# Altium schematic symbol library Regulator_Linear.SchLib: 1620 symbols (part 8 of 16)
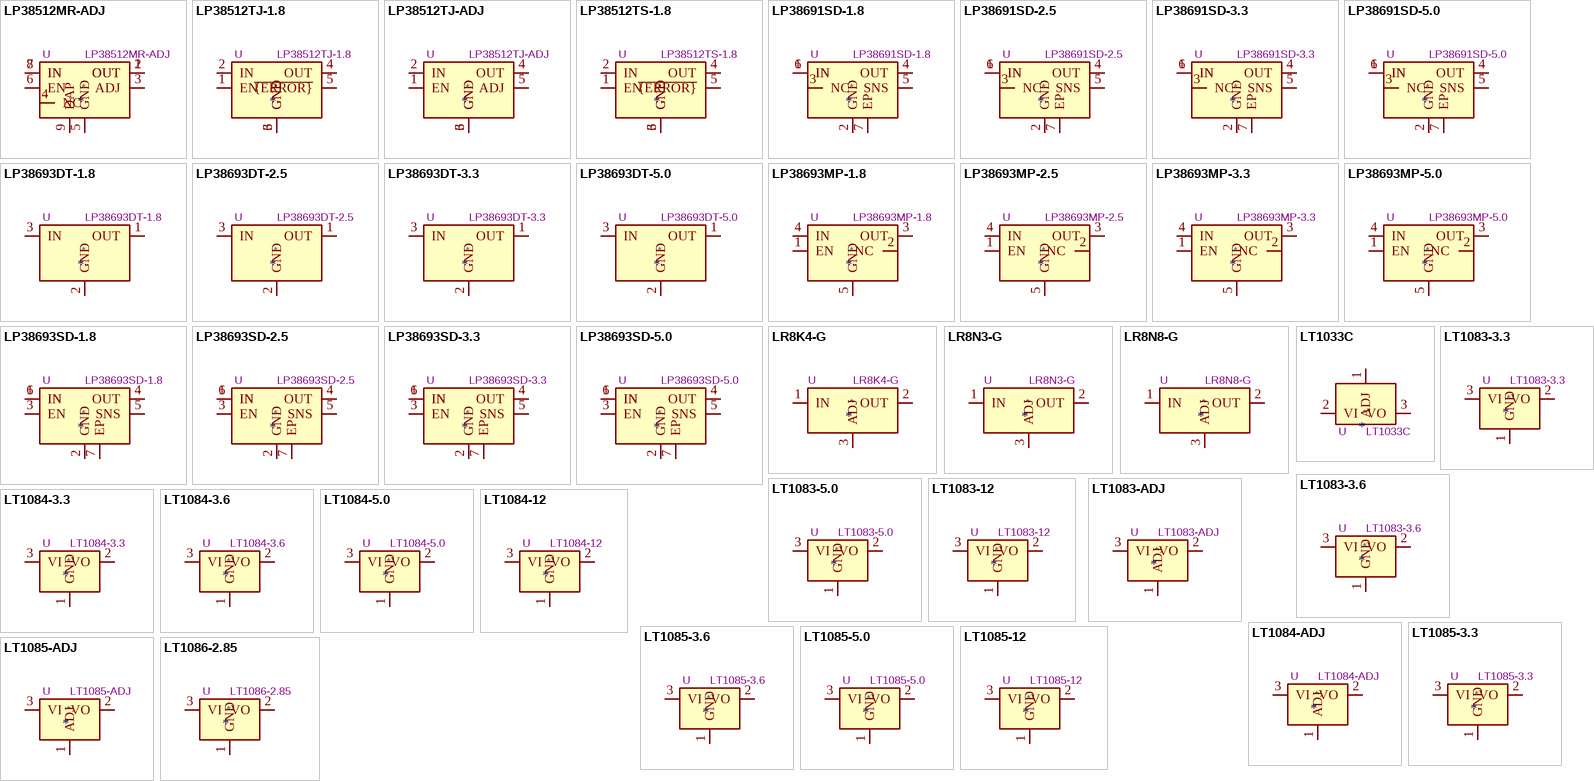
[diagram p47: symbols LP38512MR-ADJ to LT1086-2.85]

## LP38693MP-5.0
designator *  value LP38693MP-5.0  Reference: U
500-mA Low-Dropout CMOS Linear Regulators Stable With Ceramic Output Capacitors, 5.0V output voltage, Enable Pin, SOT-223; ki_keywords: LDO Linear Regulator; ki_fp_filters: SOT*223*; Footprint: Package_TO_SOT_SMD:SOT-223-5; Datasheet: https://www.ti.com/lit/ds/symlink/lp38693.pdf; Description_: 500-mA Low-Dropout CMOS Linear Regulators Stable With Ceramic Output Capacitors, 5.0V output voltage, Enable Pin, SOT-223
pins: 1 EN, 2 NC, 3 OUT, 4 IN, 5 GND

## LP38693SD-1.8
designator *  value LP38693SD-1.8  Reference: U
500-mA Low-Dropout CMOS Linear Regulators Stable With Ceramic Output Capacitors, 1.8V output voltage, Enable Pin, WSON-6; ki_keywords: LDO Linear Regulator; ki_fp_filters: WSON*1EP*3x3mm*P0.95mm*; Footprint: Package_SON:WSON-6-1EP_3x3mm_P0.95mm; Datasheet: https://www.ti.com/lit/ds/symlink/lp38693.pdf; Description_: 500-mA Low-Dropout CMOS Linear Regulators Stable With Ceramic Output Capacitors, 1.8V output voltage, Enable Pin, WSON-6
pins: 1 IN, 2 GND, 3 EN, 4 OUT, 5 SNS, 6 IN, 7 EP

## LP38693SD-2.5
designator *  value LP38693SD-2.5  Reference: U
500-mA Low-Dropout CMOS Linear Regulators Stable With Ceramic Output Capacitors, 2.5V output voltage, Enable Pin, WSON-6; ki_keywords: LDO Linear Regulator; ki_fp_filters: WSON*1EP*3x3mm*P0.95mm*; Footprint: Package_SON:WSON-6-1EP_3x3mm_P0.95mm; Datasheet: https://www.ti.com/lit/ds/symlink/lp38693.pdf; Description_: 500-mA Low-Dropout CMOS Linear Regulators Stable With Ceramic Output Capacitors, 2.5V output voltage, Enable Pin, WSON-6
pins: 1 IN, 2 GND, 3 EN, 4 OUT, 5 SNS, 6 IN, 7 EP

## LP38693SD-3.3
designator *  value LP38693SD-3.3  Reference: U
500-mA Low-Dropout CMOS Linear Regulators Stable With Ceramic Output Capacitors, 3.3V output voltage, Enable Pin, WSON-6; ki_keywords: LDO Linear Regulator; ki_fp_filters: WSON*1EP*3x3mm*P0.95mm*; Footprint: Package_SON:WSON-6-1EP_3x3mm_P0.95mm; Datasheet: https://www.ti.com/lit/ds/symlink/lp38693.pdf; Description_: 500-mA Low-Dropout CMOS Linear Regulators Stable With Ceramic Output Capacitors, 3.3V output voltage, Enable Pin, WSON-6
pins: 1 IN, 2 GND, 3 EN, 4 OUT, 5 SNS, 6 IN, 7 EP

## LP38693SD-5.0
designator *  value LP38693SD-5.0  Reference: U
500-mA Low-Dropout CMOS Linear Regulators Stable With Ceramic Output Capacitors, 5.0V output voltage, Enable Pin, WSON-6; ki_keywords: LDO Linear Regulator; ki_fp_filters: WSON*1EP*3x3mm*P0.95mm*; Footprint: Package_SON:WSON-6-1EP_3x3mm_P0.95mm; Datasheet: https://www.ti.com/lit/ds/symlink/lp38693.pdf; Description_: 500-mA Low-Dropout CMOS Linear Regulators Stable With Ceramic Output Capacitors, 5.0V output voltage, Enable Pin, WSON-6
pins: 1 IN, 2 GND, 3 EN, 4 OUT, 5 SNS, 6 IN, 7 EP

## LR8K4-G
designator *  value LR8K4-G  Reference: U
30mA 450V High-Voltage Linear Regulator (Adjustable), TO-252 (D-PAK); ki_keywords: High-Voltage Regulator Adjustable Positive; ki_fp_filters: TO*252*; Footprint: Package_TO_SOT_SMD:TO-252-2; Datasheet: http://ww1.microchip.com/downloads/en/DeviceDoc/20005399B.pdf; Description_: 30mA 450V High-Voltage Linear Regulator (Adjustable), TO-252 (D-PAK)
pins: 1 IN, 2 OUT, 3 ADJ

## LR8N3-G
designator *  value LR8N3-G  Reference: U
30mA 450V High-Voltage Linear Regulator (Adjustable), TO-92; ki_keywords: High-Voltage Regulator Adjustable Positive; ki_fp_filters: TO?92*; Footprint: Package_TO_SOT_THT:TO-92_Inline; Datasheet: http://www.supertex.com/pdf/datasheets/LR8.pdf; Description_: 30mA 450V High-Voltage Linear Regulator (Adjustable), TO-92
pins: 1 IN, 2 OUT, 3 ADJ

## LR8N8-G
designator *  value LR8N8-G  Reference: U
30mA 450V High-Voltage Linear Regulator (Adjustable), SOT-89; ki_keywords: High-Voltage Regulator Adjustable Positive; ki_fp_filters: SOT*; Footprint: Package_TO_SOT_SMD:SOT-89-3; Datasheet: http://www.supertex.com/pdf/datasheets/LR8.pdf; Description_: 30mA 450V High-Voltage Linear Regulator (Adjustable), SOT-89
pins: 1 IN, 2 OUT, 3 ADJ

## LT1033C
designator *  value LT1033C  Reference: U
Negative 3A 35V Adjustable Linear Regulator, TO-220; ki_keywords: Adjustable Voltage Regulator 3A Negative; ki_fp_filters: TO?220*; Footprint: Package_TO_SOT_THT:TO-220-3_Vertical; Datasheet: https://www.analog.com/media/en/technical-documentation/data-sheets/1033fd.pdf; Description_: Negative 3A 35V Adjustable Linear Regulator, TO-220
pins: 1 ADJ, 2 VI, 3 VO

## LT1083-3.3
designator *  value LT1083-3.3  Reference: U
7.5A 20V LDO Linear Regulator, Fixed Output 3.3V, TO-220/TO-263; ki_keywords: Voltage Regulator Fixed 7.5A Positive LDO; ki_fp_filters: TO?220* TO?263*; Datasheet: https://www.analog.com/media/en/technical-documentation/data-sheets/1083ffe.pdf; Description_: 7.5A 20V LDO Linear Regulator, Fixed Output 3.3V, TO-220/TO-263
pins: 1 GND, 2 VO, 3 VI

## LT1083-3.6
designator *  value LT1083-3.6  Reference: U
7.5A 20V LDO Linear Regulator, Fixed Output 3.6V, TO-220/TO-263; ki_keywords: Voltage Regulator Fixed 7.5A Positive LDO; ki_fp_filters: TO?220* TO?263*; Datasheet: https://www.analog.com/media/en/technical-documentation/data-sheets/1083ffe.pdf; Description_: 7.5A 20V LDO Linear Regulator, Fixed Output 3.6V, TO-220/TO-263
pins: 1 GND, 2 VO, 3 VI

## LT1083-5.0
designator *  value LT1083-5.0  Reference: U
7.5A 20V LDO Linear Regulator, Fixed Output 5.V, TO-220/TO-263; ki_keywords: Voltage Regulator Fixed 7.5A Positive LDO; ki_fp_filters: TO?220* TO?263*; Datasheet: https://www.analog.com/media/en/technical-documentation/data-sheets/1083ffe.pdf; Description_: 7.5A 20V LDO Linear Regulator, Fixed Output 5.V, TO-220/TO-263
pins: 1 GND, 2 VO, 3 VI

## LT1083-12
designator *  value LT1083-12  Reference: U
7.5A 25V LDO Linear Regulator, Fixed Output 12V, TO-220/TO-263; ki_keywords: Voltage Regulator Fixed 7.5A Positive LDO; ki_fp_filters: TO?220* TO?263*; Datasheet: https://www.analog.com/media/en/technical-documentation/data-sheets/1083ffe.pdf; Description_: 7.5A 25V LDO Linear Regulator, Fixed Output 12V, TO-220/TO-263
pins: 1 GND, 2 VO, 3 VI

## LT1083-ADJ
designator *  value LT1083-ADJ  Reference: U
7.5A 25V LDO Linear Regulator, Adjustable Output, TO-220/TO-263; ki_keywords: Voltage Regulator Adjustable 7.5A Positive LDO; ki_fp_filters: TO?220* TO?263*; Datasheet: https://www.analog.com/media/en/technical-documentation/data-sheets/108345fh.pdf; Description_: 7.5A 25V LDO Linear Regulator, Adjustable Output, TO-220/TO-263
pins: 1 ADJ, 2 VO, 3 VI

## LT1084-3.3
designator *  value LT1084-3.3  Reference: U
5.0A 20V LDO Linear Regulator, Fixed Output 3.3V, TO-220/TO-263; ki_keywords: Voltage Regulator Fixed 5.0A Positive LDO; ki_fp_filters: TO?220* TO?263*; Datasheet: https://www.analog.com/media/en/technical-documentation/data-sheets/1083ffe.pdf; Description_: 5.0A 20V LDO Linear Regulator, Fixed Output 3.3V, TO-220/TO-263
pins: 1 GND, 2 VO, 3 VI

## LT1084-3.6
designator *  value LT1084-3.6  Reference: U
5.0A 20V LDO Linear Regulator, Fixed Output 3.6V, TO-220/TO-263; ki_keywords: Voltage Regulator Fixed 5.0A Positive LDO; ki_fp_filters: TO?220* TO?263*; Datasheet: https://www.analog.com/media/en/technical-documentation/data-sheets/1083ffe.pdf; Description_: 5.0A 20V LDO Linear Regulator, Fixed Output 3.6V, TO-220/TO-263
pins: 1 GND, 2 VO, 3 VI

## LT1084-5.0
designator *  value LT1084-5.0  Reference: U
5.0A 20V LDO Linear Regulator, Fixed Output 5.V, TO-220/TO-263; ki_keywords: Voltage Regulator Fixed 5.0A Positive LDO; ki_fp_filters: TO?220* TO?263*; Datasheet: https://www.analog.com/media/en/technical-documentation/data-sheets/1083ffe.pdf; Description_: 5.0A 20V LDO Linear Regulator, Fixed Output 5.V, TO-220/TO-263
pins: 1 GND, 2 VO, 3 VI

## LT1084-12
designator *  value LT1084-12  Reference: U
5.0A 25V LDO Linear Regulator, Fixed Output 12V, TO-220/TO-263; ki_keywords: Voltage Regulator Fixed 5.0A Positive LDO; ki_fp_filters: TO?220* TO?263*; Datasheet: https://www.analog.com/media/en/technical-documentation/data-sheets/1083ffe.pdf; Description_: 5.0A 25V LDO Linear Regulator, Fixed Output 12V, TO-220/TO-263
pins: 1 GND, 2 VO, 3 VI

## LT1084-ADJ
designator *  value LT1084-ADJ  Reference: U
5.0A 25V LDO Linear Regulator, Adjustable Output, TO-220/TO-263; ki_keywords: Voltage Regulator Adjustable 5.0A Positive LDO; ki_fp_filters: TO?220* TO?263*; Datasheet: https://www.analog.com/media/en/technical-documentation/data-sheets/108345fh.pdf; Description_: 5.0A 25V LDO Linear Regulator, Adjustable Output, TO-220/TO-263
pins: 1 ADJ, 2 VO, 3 VI

## LT1085-3.3
designator *  value LT1085-3.3  Reference: U
3.0A 20V LDO Linear Regulator, Fixed Output 3.3V, TO-220/TO-263; ki_keywords: Voltage Regulator Fixed 3.0A Positive LDO; ki_fp_filters: TO?220* TO?263*; Datasheet: https://www.analog.com/media/en/technical-documentation/data-sheets/1083ffe.pdf; Description_: 3.0A 20V LDO Linear Regulator, Fixed Output 3.3V, TO-220/TO-263
pins: 1 GND, 2 VO, 3 VI

## LT1085-3.6
designator *  value LT1085-3.6  Reference: U
3.0A 20V LDO Linear Regulator, Fixed Output 3.6V, TO-220/TO-263; ki_keywords: Voltage Regulator Fixed 3.0A Positive LDO; ki_fp_filters: TO?220* TO?263*; Datasheet: https://www.analog.com/media/en/technical-documentation/data-sheets/1083ffe.pdf; Description_: 3.0A 20V LDO Linear Regulator, Fixed Output 3.6V, TO-220/TO-263
pins: 1 GND, 2 VO, 3 VI

## LT1085-5.0
designator *  value LT1085-5.0  Reference: U
3.0A 20V LDO Linear Regulator, Fixed Output 5.V, TO-220/TO-263; ki_keywords: Voltage Regulator Fixed 3.0A Positive LDO; ki_fp_filters: TO?220* TO?263*; Datasheet: https://www.analog.com/media/en/technical-documentation/data-sheets/1083ffe.pdf; Description_: 3.0A 20V LDO Linear Regulator, Fixed Output 5.V, TO-220/TO-263
pins: 1 GND, 2 VO, 3 VI

## LT1085-12
designator *  value LT1085-12  Reference: U
3.0A 25V LDO Linear Regulator, Fixed Output 12V, TO-220/TO-263; ki_keywords: Voltage Regulator Fixed 3.0A Positive LDO; ki_fp_filters: TO?220* TO?263*; Datasheet: https://www.analog.com/media/en/technical-documentation/data-sheets/1083ffe.pdf; Description_: 3.0A 25V LDO Linear Regulator, Fixed Output 12V, TO-220/TO-263
pins: 1 GND, 2 VO, 3 VI

## LT1085-ADJ
designator *  value LT1085-ADJ  Reference: U
3.0A 25V LDO Linear Regulator, Adjustable Output, TO-220/TO-263; ki_keywords: Voltage Regulator Adjustable 3.0A Positive LDO; ki_fp_filters: TO?220* TO?263*; Datasheet: https://www.analog.com/media/en/technical-documentation/data-sheets/108345fh.pdf; Description_: 3.0A 25V LDO Linear Regulator, Adjustable Output, TO-220/TO-263
pins: 1 ADJ, 2 VO, 3 VI

## LT1086-2.85
designator *  value LT1086-2.85  Reference: U
1.5A 18V LDO Linear Regulator, Fixed Output 2.85V, TO-220/TO-263; ki_keywords: Voltage Regulator Fixed 1.5A Positive LDO; ki_fp_filters: TO?220* TO?263*; Datasheet: https://www.analog.com/media/en/technical-documentation/data-sheets/1086ffs.pdf; Description_: 1.5A 18V LDO Linear Regulator, Fixed Output 2.85V, TO-220/TO-263
pins: 1 GND, 2 VO, 3 VI

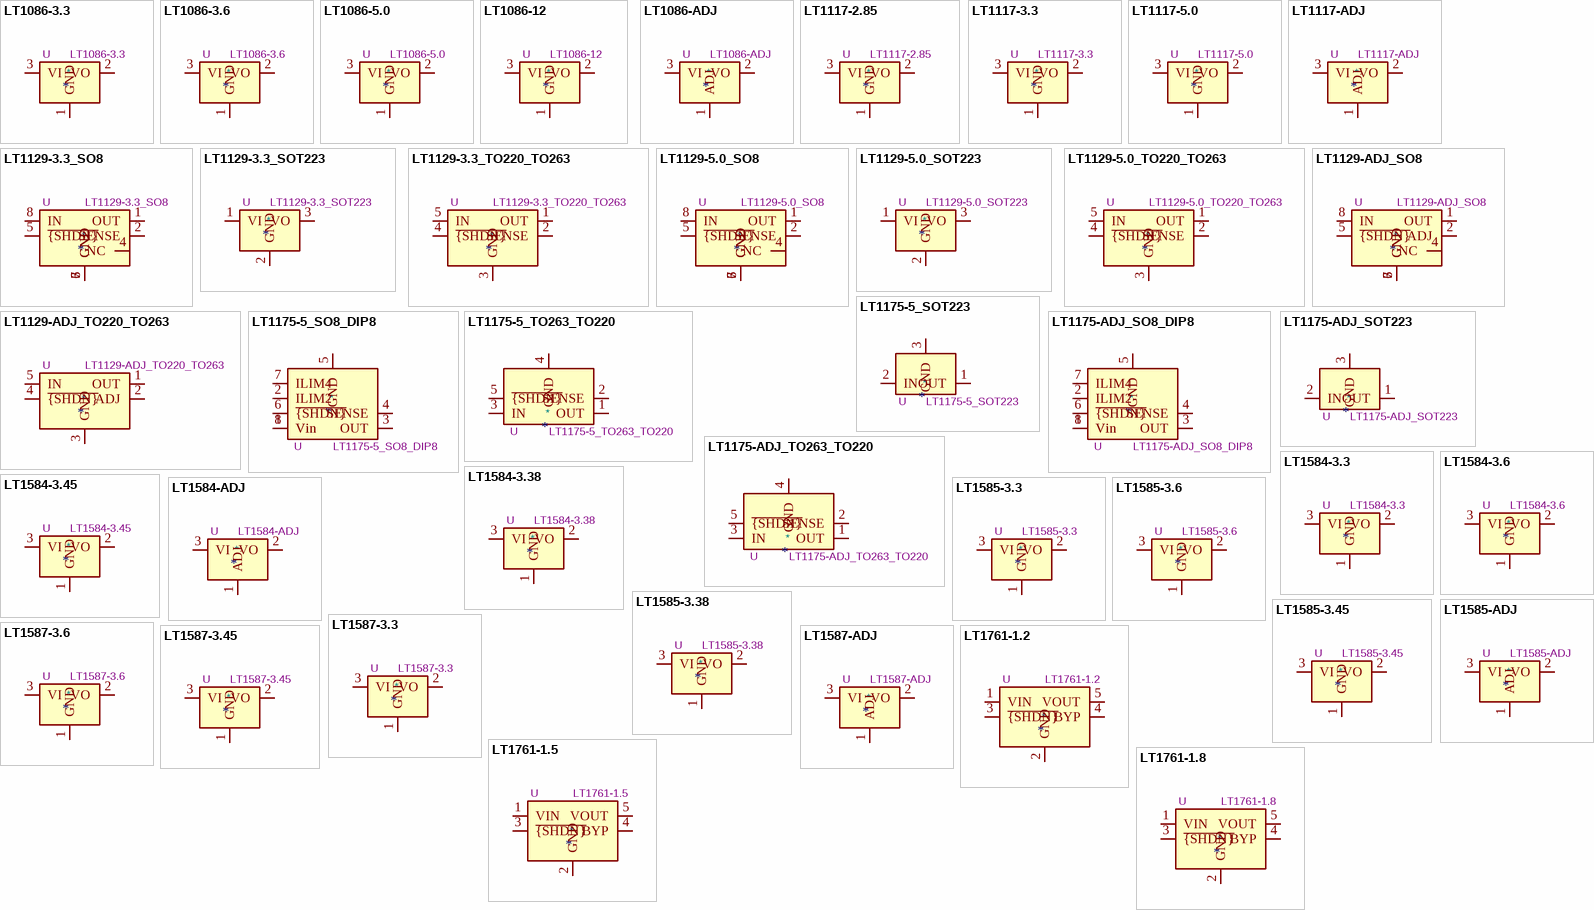
[diagram p19: symbols LT1086-3.3 to LT1761-1.8]

## LT1086-3.3
designator *  value LT1086-3.3  Reference: U
1.5A 20V LDO Linear Regulator, Fixed Output 3.3V, TO-220/TO-263; ki_keywords: Voltage Regulator Fixed 1.5A Positive LDO; ki_fp_filters: TO?220* TO?263*; Datasheet: https://www.analog.com/media/en/technical-documentation/data-sheets/1086ffs.pdf; Description_: 1.5A 20V LDO Linear Regulator, Fixed Output 3.3V, TO-220/TO-263
pins: 1 GND, 2 VO, 3 VI

## LT1086-3.6
designator *  value LT1086-3.6  Reference: U
1.5A 20V LDO Linear Regulator, Fixed Output 3.6V, TO-220/TO-263; ki_keywords: Voltage Regulator Fixed 1.5A Positive LDO; ki_fp_filters: TO?220* TO?263*; Datasheet: https://www.analog.com/media/en/technical-documentation/data-sheets/1086ffs.pdf; Description_: 1.5A 20V LDO Linear Regulator, Fixed Output 3.6V, TO-220/TO-263
pins: 1 GND, 2 VO, 3 VI

## LT1086-5.0
designator *  value LT1086-5.0  Reference: U
1.5A 20V LDO Linear Regulator, Fixed Output 5.V, TO-220/TO-263; ki_keywords: Voltage Regulator Fixed 1.5A Positive LDO; ki_fp_filters: TO?220* TO?263*; Datasheet: https://www.analog.com/media/en/technical-documentation/data-sheets/1086ffs.pdf; Description_: 1.5A 20V LDO Linear Regulator, Fixed Output 5.V, TO-220/TO-263
pins: 1 GND, 2 VO, 3 VI

## LT1086-12
designator *  value LT1086-12  Reference: U
1.5A 25V LDO Linear Regulator, Fixed Output 12V, TO-220/TO-263; ki_keywords: Voltage Regulator Fixed 1.5A Positive LDO; ki_fp_filters: TO?220* TO?263*; Datasheet: https://www.analog.com/media/en/technical-documentation/data-sheets/1086ffs.pdf; Description_: 1.5A 25V LDO Linear Regulator, Fixed Output 12V, TO-220/TO-263
pins: 1 GND, 2 VO, 3 VI

## LT1086-ADJ
designator *  value LT1086-ADJ  Reference: U
1.5A 25V LDO Linear Regulator, Adjustable Output, TO-220/TO-263; ki_keywords: Voltage Regulator Adjustable 1.5A Positive LDO; ki_fp_filters: TO?220* TO?263*; Datasheet: https://www.analog.com/media/en/technical-documentation/data-sheets/1086ffs.pdf; Description_: 1.5A 25V LDO Linear Regulator, Adjustable Output, TO-220/TO-263
pins: 1 ADJ, 2 VO, 3 VI

## LT1117-2.85
designator *  value LT1117-2.85  Reference: U
800mA Low-Dropout Linear Regulator, 2.85V fixed output, SOT-223/TO-263; ki_keywords: linear regulator ldo fixed positive; ki_fp_filters: SOT?223* TO?263*; Datasheet: https://www.analog.com/media/en/technical-documentation/data-sheets/1117fd.pdf; Description_: 800mA Low-Dropout Linear Regulator, 2.85V fixed output, SOT-223/TO-263
pins: 1 GND, 2 VO, 3 VI

## LT1117-3.3
designator *  value LT1117-3.3  Reference: U
800mA Low-Dropout Linear Regulator, 3.3V fixed output, SOT-223/TO-263; ki_keywords: linear regulator ldo fixed positive; ki_fp_filters: SOT?223* TO?263*; Datasheet: https://www.analog.com/media/en/technical-documentation/data-sheets/1117fd.pdf; Description_: 800mA Low-Dropout Linear Regulator, 3.3V fixed output, SOT-223/TO-263
pins: 1 GND, 2 VO, 3 VI

## LT1117-5.0
designator *  value LT1117-5.0  Reference: U
800mA Low-Dropout Linear Regulator, 5.0V fixed output, SOT-223/TO-263; ki_keywords: linear regulator ldo fixed positive; ki_fp_filters: SOT?223* TO?263*; Datasheet: https://www.analog.com/media/en/technical-documentation/data-sheets/1117fd.pdf; Description_: 800mA Low-Dropout Linear Regulator, 5.0V fixed output, SOT-223/TO-263
pins: 1 GND, 2 VO, 3 VI

## LT1117-ADJ
designator *  value LT1117-ADJ  Reference: U
800mA Low-Dropout Linear Regulator, adjustable output, SOT-223/TO-263; ki_keywords: linear regulator ldo adjustable positive; ki_fp_filters: SOT?223* TO?263*; Datasheet: https://www.analog.com/media/en/technical-documentation/data-sheets/1117fd.pdf; Description_: 800mA Low-Dropout Linear Regulator, adjustable output, SOT-223/TO-263
pins: 1 ADJ, 2 VO, 3 VI

## LT1129-3.3_SO8
designator *  value LT1129-3.3_SO8  Reference: U
700mA Micropower Low Dropout Linear Regulator, 3.3V output voltage, SO-8; ki_keywords: LDO Linear Regulator positive fixed; ki_fp_filters: SOIC*3.9x4.9mm*P1.27mm*; Footprint: Package_SO:SOIC-8_3.9x4.9mm_P1.27mm; Datasheet: https://www.analog.com/media/en/technical-documentation/data-sheets/112935ff.pdf; Description_: 700mA Micropower Low Dropout Linear Regulator, 3.3V output voltage, SO-8
pins: 1 OUT, 2 SENSE, 3 GND, 4 NC, 5 ~{{SHDN}}, 6 GND, 7 GND, 8 IN

## LT1129-3.3_SOT223
designator *  value LT1129-3.3_SOT223  Reference: U
700mA Micropower Low drop-out regulator, Fixed Output 3.3V, SOT-223; ki_keywords: REGULATOR LDO fixed positive; ki_fp_filters: SOT?223*; Footprint: Package_TO_SOT_SMD:SOT-223-3_TabPin2; Datasheet: https://www.analog.com/media/en/technical-documentation/data-sheets/112935ff.pdf; Description_: 700mA Micropower Low drop-out regulator, Fixed Output 3.3V, SOT-223
pins: 1 VI, 2 GND, 3 VO

## LT1129-3.3_TO220_TO263
designator *  value LT1129-3.3_TO220_TO263  Reference: U
700mA Micropower Low Dropout Linear Regulator, 3.3V output voltage, TO-220-5/TO-263-5; ki_keywords: LDO Linear Regulator positive fixed; ki_fp_filters: TO?220*Vertical*StaggerOdd* TO?263*TabPin3*; Datasheet: https://www.analog.com/media/en/technical-documentation/data-sheets/112935ff.pdf; Description_: 700mA Micropower Low Dropout Linear Regulator, 3.3V output voltage, TO-220-5/TO-263-5
pins: 1 OUT, 2 SENSE, 3 GND, 4 ~{{SHDN}}, 5 IN

## LT1129-5.0_SO8
designator *  value LT1129-5.0_SO8  Reference: U
700mA Micropower Low Dropout Linear Regulator, 5.0V output voltage, SO-8; ki_keywords: LDO Linear Regulator positive fixed; ki_fp_filters: SOIC*3.9x4.9mm*P1.27mm*; Footprint: Package_SO:SOIC-8_3.9x4.9mm_P1.27mm; Datasheet: https://www.analog.com/media/en/technical-documentation/data-sheets/112935ff.pdf; Description_: 700mA Micropower Low Dropout Linear Regulator, 5.0V output voltage, SO-8
pins: 1 OUT, 2 SENSE, 3 GND, 4 NC, 5 ~{{SHDN}}, 6 GND, 7 GND, 8 IN

## LT1129-5.0_SOT223
designator *  value LT1129-5.0_SOT223  Reference: U
700mA Micropower Low drop-out regulator, Fixed Output 5.0V, SOT-223; ki_keywords: REGULATOR LDO Fixed Positive; ki_fp_filters: SOT?223*; Footprint: Package_TO_SOT_SMD:SOT-223-3_TabPin2; Datasheet: https://www.analog.com/media/en/technical-documentation/data-sheets/112935ff.pdf; Description_: 700mA Micropower Low drop-out regulator, Fixed Output 5.0V, SOT-223
pins: 1 VI, 2 GND, 3 VO

## LT1129-5.0_TO220_TO263
designator *  value LT1129-5.0_TO220_TO263  Reference: U
700mA Micropower Low Dropout Linear Regulator, 5.0V output voltage, TO-220-5/TO-263-5; ki_keywords: LDO Linear Regulator positive fixed; ki_fp_filters: TO?220*Vertical*StaggerOdd* TO?263*TabPin3*; Datasheet: https://www.analog.com/media/en/technical-documentation/data-sheets/112935ff.pdf; Description_: 700mA Micropower Low Dropout Linear Regulator, 5.0V output voltage, TO-220-5/TO-263-5
pins: 1 OUT, 2 SENSE, 3 GND, 4 ~{{SHDN}}, 5 IN

## LT1129-ADJ_SO8
designator *  value LT1129-ADJ_SO8  Reference: U
700mA Micropower Low Dropout Linear Regulator, adjustable output voltage, SO-8; ki_keywords: LDO Linear Regulator positive adjustable; ki_fp_filters: SOIC*3.9x4.9mm*P1.27mm*; Footprint: Package_SO:SOIC-8_3.9x4.9mm_P1.27mm; Datasheet: https://www.analog.com/media/en/technical-documentation/data-sheets/112935ff.pdf; Description_: 700mA Micropower Low Dropout Linear Regulator, adjustable output voltage, SO-8
pins: 1 OUT, 2 ADJ, 3 GND, 4 NC, 5 ~{{SHDN}}, 6 GND, 7 GND, 8 IN

## LT1129-ADJ_TO220_TO263
designator *  value LT1129-ADJ_TO220_TO263  Reference: U
700mA Micropower Low Dropout Linear Regulator, adjustable output voltage, TO-220-5/TO-263-5; ki_keywords: LDO Linear Regulator positive adjustable; ki_fp_filters: TO?220*Vertical*StaggerOdd* TO?263*TabPin3*; Datasheet: https://www.analog.com/media/en/technical-documentation/data-sheets/112935ff.pdf; Description_: 700mA Micropower Low Dropout Linear Regulator, adjustable output voltage, TO-220-5/TO-263-5
pins: 1 OUT, 2 ADJ, 3 GND, 4 ~{{SHDN}}, 5 IN

## LT1175-5_SO8_DIP8
designator *  value LT1175-5_SO8_DIP8  Reference: U
500mA Negative Low Dropout Micropower Regulator, fixed output voltage -5V, SO-8/DIP-8; ki_keywords: linear regulator LDO negative fixed; ki_fp_filters: SOIC*3.9x4.9mm*P1.27mm* DIP*W7.62mm*; Datasheet: https://www.analog.com/media/en/technical-documentation/data-sheets/1175ff.pdf; Description_: 500mA Negative Low Dropout Micropower Regulator, fixed output voltage -5V, SO-8/DIP-8
pins: 1 Vin, 2 ILIM2, 3 OUT, 4 SENSE, 5 GND, 6 ~{{SHDN}}, 7 ILIM4, 8 Vin

## LT1175-5_SOT223
designator *  value LT1175-5_SOT223  Reference: U
500mA Negative Low Dropout Micropower Regulator, fixed output voltage -5V, SOT-223; ki_keywords: linear regulator LDO negative fixed; ki_fp_filters: SOT?223*; Footprint: Package_TO_SOT_SMD:SOT-223-3_TabPin2; Datasheet: https://www.analog.com/media/en/technical-documentation/data-sheets/1175ff.pdf; Description_: 500mA Negative Low Dropout Micropower Regulator, fixed output voltage -5V, SOT-223
pins: 1 OUT, 2 IN, 3 GND

## LT1175-5_TO263_TO220
designator *  value LT1175-5_TO263_TO220  Reference: U
500mA Negative Low Dropout Micropower Regulator, fixed output voltage -5V, TO-220-5/TO-263; ki_keywords: linear regulator LDO negative fixed; ki_fp_filters: TO?263* TO?220*; Datasheet: https://www.analog.com/media/en/technical-documentation/data-sheets/1175ff.pdf; Description_: 500mA Negative Low Dropout Micropower Regulator, fixed output voltage -5V, TO-220-5/TO-263
pins: 1 OUT, 2 SENSE, 3 IN, 4 GND, 5 ~{{SHDN}}

## LT1175-ADJ_SO8_DIP8
designator *  value LT1175-ADJ_SO8_DIP8  Reference: U
500mA Negative Low Dropout Micropower Regulator, adjustable output voltage, SO-8/DIP-8; ki_keywords: linear regulator LDO negative adjustable; ki_fp_filters: SOIC*3.9x4.9mm*P1.27mm* DIP*W7.62mm*; Datasheet: https://www.analog.com/media/en/technical-documentation/data-sheets/1175ff.pdf; Description_: 500mA Negative Low Dropout Micropower Regulator, adjustable output voltage, SO-8/DIP-8
pins: 1 Vin, 2 ILIM2, 3 OUT, 4 SENSE, 5 GND, 6 ~{{SHDN}}, 7 ILIM4, 8 Vin

## LT1175-ADJ_SOT223
designator *  value LT1175-ADJ_SOT223  Reference: U
500mA Negative Low Dropout Micropower Regulator, adjustable output voltage, SOT-223; ki_keywords: linear regulator LDO negative adjustable; ki_fp_filters: SOT?223*; Footprint: Package_TO_SOT_SMD:SOT-223-3_TabPin2; Datasheet: https://www.analog.com/media/en/technical-documentation/data-sheets/1175ff.pdf; Description_: 500mA Negative Low Dropout Micropower Regulator, adjustable output voltage, SOT-223
pins: 1 OUT, 2 IN, 3 GND

## LT1175-ADJ_TO263_TO220
designator *  value LT1175-ADJ_TO263_TO220  Reference: U
500mA Negative Low Dropout Micropower Regulator, adjustable output voltage, TO-220-5/TO-263; ki_keywords: linear regulator LDO negative adjustable; ki_fp_filters: TO?263* TO?220*; Datasheet: https://www.analog.com/media/en/technical-documentation/data-sheets/1175ff.pdf; Description_: 500mA Negative Low Dropout Micropower Regulator, adjustable output voltage, TO-220-5/TO-263
pins: 1 OUT, 2 SENSE, 3 IN, 4 GND, 5 ~{{SHDN}}

## LT1584-3.3
designator *  value LT1584-3.3  Reference: U
Positive 7A 35V Low Dropout Fast Response Linear Regulator, Fixed Output 3.3V, TO-220/TO-263; ki_keywords: Voltage Regulator 7A Positive Fixed; ki_fp_filters: TO?220*; Footprint: Package_TO_SOT_THT:TO-220-3_Vertical; Datasheet: https://www.analog.com/media/en/technical-documentation/data-sheets/158457a.pdf; Description_: Positive 7A 35V Low Dropout Fast Response Linear Regulator, Fixed Output 3.3V, TO-220/TO-263
pins: 1 GND, 2 VO, 3 VI

## LT1584-3.6
designator *  value LT1584-3.6  Reference: U
Positive 7A 35V Low Dropout Fast Response Linear Regulator, Fixed Output 3.6V, TO-220/TO-263; ki_keywords: Voltage Regulator 7A Positive Fixed; ki_fp_filters: TO?220*; Footprint: Package_TO_SOT_THT:TO-220-3_Vertical; Datasheet: https://www.analog.com/media/en/technical-documentation/data-sheets/158457a.pdf; Description_: Positive 7A 35V Low Dropout Fast Response Linear Regulator, Fixed Output 3.6V, TO-220/TO-263
pins: 1 GND, 2 VO, 3 VI

## LT1584-3.38
designator *  value LT1584-3.38  Reference: U
Positive 7A 35V Low Dropout Fast Response Linear Regulator, Fixed Output 3.38V, TO-220/TO-263; ki_keywords: Voltage Regulator 7A Positive Fixed; ki_fp_filters: TO?220*; Footprint: Package_TO_SOT_THT:TO-220-3_Vertical; Datasheet: https://www.analog.com/media/en/technical-documentation/data-sheets/158457a.pdf; Description_: Positive 7A 35V Low Dropout Fast Response Linear Regulator, Fixed Output 3.38V, TO-220/TO-263
pins: 1 GND, 2 VO, 3 VI

## LT1584-3.45
designator *  value LT1584-3.45  Reference: U
Positive 7A 35V Low Dropout Fast Response Linear Regulator, Fixed Output 3.45V, TO-220/TO-263; ki_keywords: Voltage Regulator 7A Positive Fixed; ki_fp_filters: TO?220*; Footprint: Package_TO_SOT_THT:TO-220-3_Vertical; Datasheet: https://www.analog.com/media/en/technical-documentation/data-sheets/158457a.pdf; Description_: Positive 7A 35V Low Dropout Fast Response Linear Regulator, Fixed Output 3.45V, TO-220/TO-263
pins: 1 GND, 2 VO, 3 VI

## LT1584-ADJ
designator *  value LT1584-ADJ  Reference: U
Positive 7A 35V Low Dropout Fast Response Linear Regulator, Adjustable Output, TO-220; ki_keywords: Voltage Regulator 7A Positive Adjustable; ki_fp_filters: TO?220*; Footprint: Package_TO_SOT_THT:TO-220-3_Vertical; Datasheet: https://www.analog.com/media/en/technical-documentation/data-sheets/158457a.pdf; Description_: Positive 7A 35V Low Dropout Fast Response Linear Regulator, Adjustable Output, TO-220
pins: 1 ADJ, 2 VO, 3 VI

## LT1585-3.3
designator *  value LT1585-3.3  Reference: U
Positive 4.6A 35V Low Dropout Fast Response Linear Regulator, Fixed Output 3.3V, TO-220/TO-263; ki_keywords: Voltage Regulator 4.6A Positive Fixed; ki_fp_filters: TO?220* TO?263*; Datasheet: https://www.analog.com/media/en/technical-documentation/data-sheets/158457a.pdf; Description_: Positive 4.6A 35V Low Dropout Fast Response Linear Regulator, Fixed Output 3.3V, TO-220/TO-263
pins: 1 GND, 2 VO, 3 VI

## LT1585-3.6
designator *  value LT1585-3.6  Reference: U
Positive 4.6A 35V Low Dropout Fast Response Linear Regulator, Fixed Output 3.6V, TO-220/TO-263; ki_keywords: Voltage Regulator 4.6A Positive Fixed; ki_fp_filters: TO?220* TO?263*; Datasheet: https://www.analog.com/media/en/technical-documentation/data-sheets/158457a.pdf; Description_: Positive 4.6A 35V Low Dropout Fast Response Linear Regulator, Fixed Output 3.6V, TO-220/TO-263
pins: 1 GND, 2 VO, 3 VI

## LT1585-3.38
designator *  value LT1585-3.38  Reference: U
Positive 4.6A 35V Low Dropout Fast Response Linear Regulator, Fixed Output 3.38V, TO-220/TO-263; ki_keywords: Voltage Regulator 4.6A Positive Fixed; ki_fp_filters: TO?220* TO?263*; Datasheet: https://www.analog.com/media/en/technical-documentation/data-sheets/158457a.pdf; Description_: Positive 4.6A 35V Low Dropout Fast Response Linear Regulator, Fixed Output 3.38V, TO-220/TO-263
pins: 1 GND, 2 VO, 3 VI

## LT1585-3.45
designator *  value LT1585-3.45  Reference: U
Positive 4.6A 35V Low Dropout Fast Response Linear Regulator, Fixed Output 3.45V, TO-220/TO-263; ki_keywords: Voltage Regulator 4.6A Positive Fixed; ki_fp_filters: TO?220* TO?263*; Datasheet: https://www.analog.com/media/en/technical-documentation/data-sheets/158457a.pdf; Description_: Positive 4.6A 35V Low Dropout Fast Response Linear Regulator, Fixed Output 3.45V, TO-220/TO-263
pins: 1 GND, 2 VO, 3 VI

## LT1585-ADJ
designator *  value LT1585-ADJ  Reference: U
Positive 4.6A 35V Low Dropout Fast Response Linear Regulator, Adjustable Output, TO-220/TO-263; ki_keywords: Voltage Regulator 4.6A Positive Adjustable; ki_fp_filters: TO?220* TO?263*; Datasheet: https://www.analog.com/media/en/technical-documentation/data-sheets/158457a.pdf; Description_: Positive 4.6A 35V Low Dropout Fast Response Linear Regulator, Adjustable Output, TO-220/TO-263
pins: 1 ADJ, 2 VO, 3 VI

## LT1587-3.3
designator *  value LT1587-3.3  Reference: U
Positive 3A 35V Low Dropout Fast Response Linear Regulator, Fixed Output 3.3V, TO-220/TO-263; ki_keywords: Voltage Regulator 3A Positive Fixed; ki_fp_filters: TO?220* TO?263*; Datasheet: https://www.analog.com/media/en/technical-documentation/data-sheets/158457a.pdf; Description_: Positive 3A 35V Low Dropout Fast Response Linear Regulator, Fixed Output 3.3V, TO-220/TO-263
pins: 1 GND, 2 VO, 3 VI

## LT1587-3.6
designator *  value LT1587-3.6  Reference: U
Positive 3A 35V Low Dropout Fast Response Linear Regulator, Fixed Output 3.6V, TO-220/TO-263; ki_keywords: Voltage Regulator 3A Positive Fixed; ki_fp_filters: TO?220* TO?263*; Datasheet: https://www.analog.com/media/en/technical-documentation/data-sheets/158457a.pdf; Description_: Positive 3A 35V Low Dropout Fast Response Linear Regulator, Fixed Output 3.6V, TO-220/TO-263
pins: 1 GND, 2 VO, 3 VI

## LT1587-3.45
designator *  value LT1587-3.45  Reference: U
Positive 3A 35V Low Dropout Fast Response Linear Regulator, Fixed Output 3.45V, TO-220/TO-263; ki_keywords: Voltage Regulator 3A Positive Fixed; ki_fp_filters: TO?220* TO?263*; Datasheet: https://www.analog.com/media/en/technical-documentation/data-sheets/158457a.pdf; Description_: Positive 3A 35V Low Dropout Fast Response Linear Regulator, Fixed Output 3.45V, TO-220/TO-263
pins: 1 GND, 2 VO, 3 VI

## LT1587-ADJ
designator *  value LT1587-ADJ  Reference: U
Positive 3A 35V Low Dropout Fast Response Linear Regulator, Adjustable Output, TO-220/TO-263; ki_keywords: Voltage Regulator 3A Positive Adjustable; ki_fp_filters: TO?220* TO?263*; Datasheet: https://www.analog.com/media/en/technical-documentation/data-sheets/158457a.pdf; Description_: Positive 3A 35V Low Dropout Fast Response Linear Regulator, Adjustable Output, TO-220/TO-263
pins: 1 ADJ, 2 VO, 3 VI

## LT1761-1.2
designator *  value LT1761-1.2  Reference: U
MICROPOWER Low Noise 1.2V 100mA LDO regulator, TSOT-23-5; ki_keywords: REGULATOR POWER LDO POSITIVE; ki_fp_filters: TSOT?23*; Footprint: Package_TO_SOT_SMD:TSOT-23-5; Datasheet: https://www.analog.com/media/en/technical-documentation/data-sheets/1761sff.pdf; Description_: MICROPOWER Low Noise 1.2V 100mA LDO regulator, TSOT-23-5
pins: 1 VIN, 2 GND, 3 ~{{SHDN}}, 4 BYP, 5 VOUT

## LT1761-1.5
designator *  value LT1761-1.5  Reference: U
MICROPOWER Low Noise 1.5V 100mA LDO regulator, TSOT-23-5; ki_keywords: POWER LDO REGULATOR POSITIVE; ki_fp_filters: TSOT?23*; Footprint: Package_TO_SOT_SMD:TSOT-23-5; Datasheet: https://www.analog.com/media/en/technical-documentation/data-sheets/1761sff.pdf; Description_: MICROPOWER Low Noise 1.5V 100mA LDO regulator, TSOT-23-5
pins: 1 VIN, 2 GND, 3 ~{{SHDN}}, 4 BYP, 5 VOUT

## LT1761-1.8
designator *  value LT1761-1.8  Reference: U
MICROPOWER Low Noise 1.8V 100mA LDO regulator, TSOT-23-5; ki_keywords: REGULATOR POSITIVE POWER LDO; ki_fp_filters: TSOT?23*; Footprint: Package_TO_SOT_SMD:TSOT-23-5; Datasheet: https://www.analog.com/media/en/technical-documentation/data-sheets/1761sff.pdf; Description_: MICROPOWER Low Noise 1.8V 100mA LDO regulator, TSOT-23-5
pins: 1 VIN, 2 GND, 3 ~{{SHDN}}, 4 BYP, 5 VOUT

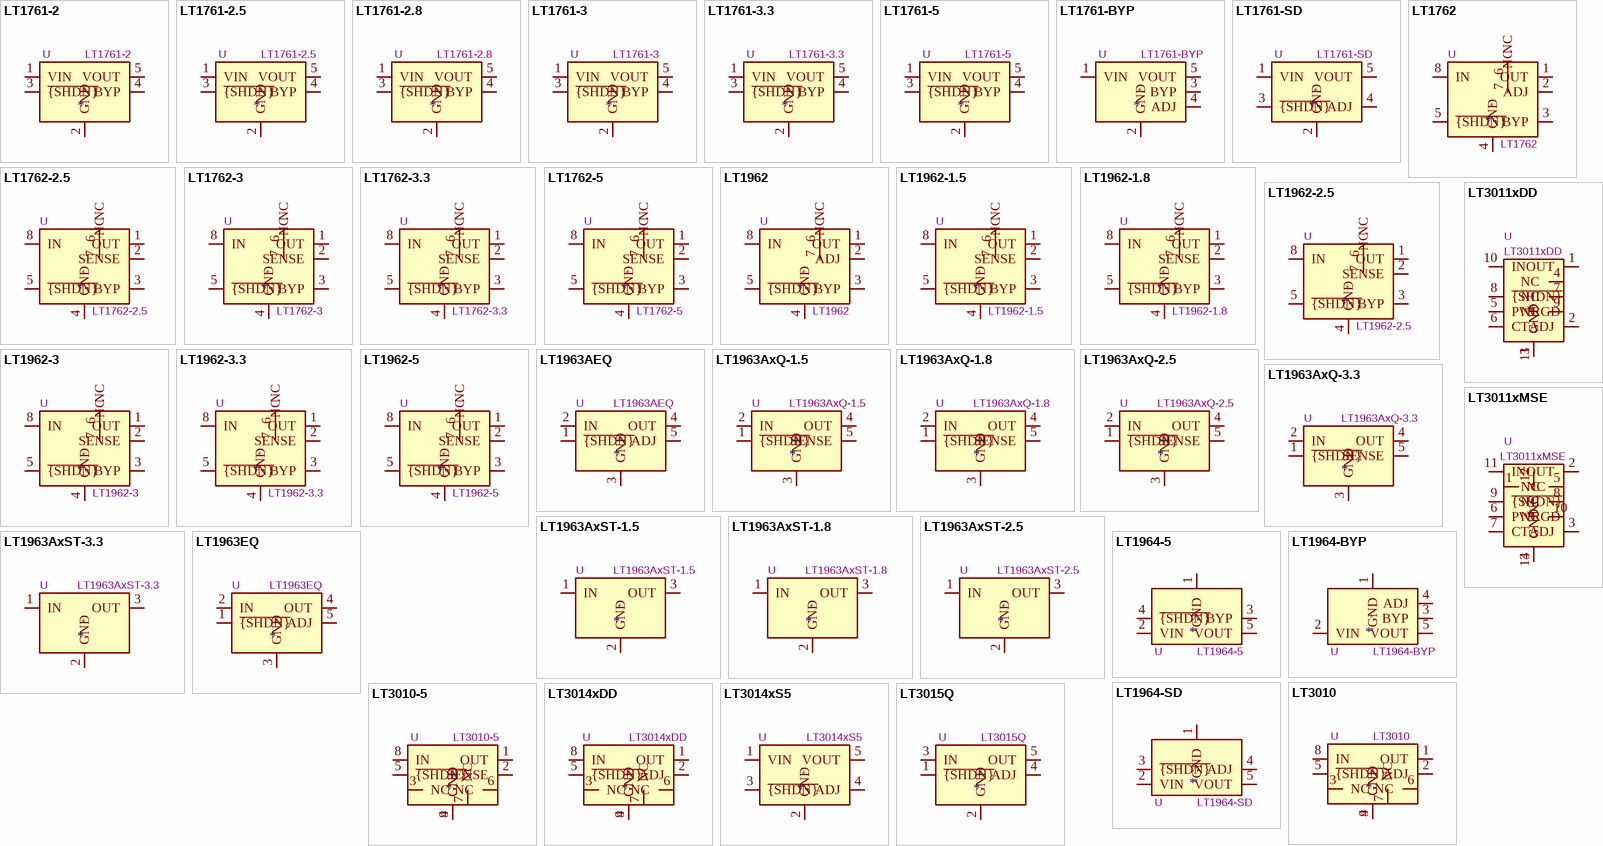
[diagram p20: symbols LT1761-2 to LT3015Q]

## LT1761-2
designator *  value LT1761-2  Reference: U
MICROPOWER Low Noise 2V 100mA LDO regulator, TSOT-23-5; ki_keywords: REGULATOR POSITIVE POWER LDO; ki_fp_filters: TSOT?23*; Footprint: Package_TO_SOT_SMD:TSOT-23-5; Datasheet: https://www.analog.com/media/en/technical-documentation/data-sheets/1761sff.pdf; Description_: MICROPOWER Low Noise 2V 100mA LDO regulator, TSOT-23-5
pins: 1 VIN, 2 GND, 3 ~{{SHDN}}, 4 BYP, 5 VOUT

## LT1761-2.5
designator *  value LT1761-2.5  Reference: U
MICROPOWER Low Noise 2.5V 100mA LDO regulator, TSOT-23-5; ki_keywords: REGULATOR POSITIVE POWER LDO; ki_fp_filters: TSOT?23*; Footprint: Package_TO_SOT_SMD:TSOT-23-5; Datasheet: https://www.analog.com/media/en/technical-documentation/data-sheets/1761sff.pdf; Description_: MICROPOWER Low Noise 2.5V 100mA LDO regulator, TSOT-23-5
pins: 1 VIN, 2 GND, 3 ~{{SHDN}}, 4 BYP, 5 VOUT

## LT1761-2.8
designator *  value LT1761-2.8  Reference: U
MICROPOWER Low Noise 2.8V 100mA LDO regulator, TSOT-23-5; ki_keywords: REGULATOR POSITIVE POWER LDO; ki_fp_filters: TSOT?23*; Footprint: Package_TO_SOT_SMD:TSOT-23-5; Datasheet: https://www.analog.com/media/en/technical-documentation/data-sheets/1761sff.pdf; Description_: MICROPOWER Low Noise 2.8V 100mA LDO regulator, TSOT-23-5
pins: 1 VIN, 2 GND, 3 ~{{SHDN}}, 4 BYP, 5 VOUT

## LT1761-3
designator *  value LT1761-3  Reference: U
MICROPOWER Low Noise 3V 100mA LDO regulator, TSOT-23-5; ki_keywords: REGULATOR POSITIVE POWER LDO; ki_fp_filters: TSOT?23*; Footprint: Package_TO_SOT_SMD:TSOT-23-5; Datasheet: https://www.analog.com/media/en/technical-documentation/data-sheets/1761sff.pdf; Description_: MICROPOWER Low Noise 3V 100mA LDO regulator, TSOT-23-5
pins: 1 VIN, 2 GND, 3 ~{{SHDN}}, 4 BYP, 5 VOUT

## LT1761-3.3
designator *  value LT1761-3.3  Reference: U
MICROPOWER Low Noise 3.3V 100mA LDO regulator, TSOT-23-5; ki_keywords: REGULATOR POSITIVE POWER LDO; ki_fp_filters: TSOT?23*; Footprint: Package_TO_SOT_SMD:TSOT-23-5; Datasheet: https://www.analog.com/media/en/technical-documentation/data-sheets/1761sff.pdf; Description_: MICROPOWER Low Noise 3.3V 100mA LDO regulator, TSOT-23-5
pins: 1 VIN, 2 GND, 3 ~{{SHDN}}, 4 BYP, 5 VOUT

## LT1761-5
designator *  value LT1761-5  Reference: U
MICROPOWER Low Noise 5V 100mA LDO regulator, TSOT-23-5; ki_keywords: REGULATOR POSITIVE POWER LDO; ki_fp_filters: TSOT?23*; Footprint: Package_TO_SOT_SMD:TSOT-23-5; Datasheet: https://www.analog.com/media/en/technical-documentation/data-sheets/1761sff.pdf; Description_: MICROPOWER Low Noise 5V 100mA LDO regulator, TSOT-23-5
pins: 1 VIN, 2 GND, 3 ~{{SHDN}}, 4 BYP, 5 VOUT

## LT1761-BYP
designator *  value LT1761-BYP  Reference: U
MICROPOWER 100mA LDO adjustable regulator, TSOT-23-5; ki_keywords: REGULATOR POSITIVE POWER LDO adjustable; ki_fp_filters: TSOT?23*; Footprint: Package_TO_SOT_SMD:TSOT-23-5; Datasheet: https://www.analog.com/media/en/technical-documentation/data-sheets/1761sff.pdf; Description_: MICROPOWER 100mA LDO adjustable regulator, TSOT-23-5
pins: 1 VIN, 2 GND, 3 BYP, 4 ADJ, 5 VOUT

## LT1761-SD
designator *  value LT1761-SD  Reference: U
MICROPOWER 100mA LDO adjustable regulator, TSOT-23-5; ki_keywords: REGULATOR POSITIVE POWER LDO adjustable; ki_fp_filters: TSOT?23*; Footprint: Package_TO_SOT_SMD:TSOT-23-5; Datasheet: https://www.analog.com/media/en/technical-documentation/data-sheets/1761sff.pdf; Description_: MICROPOWER 100mA LDO adjustable regulator, TSOT-23-5
pins: 1 VIN, 2 GND, 3 ~{{SHDN}}, 4 ADJ, 5 VOUT

## LT1762
designator *  value LT1762  Reference: U
150mA, Adjustable, Low Noise, Micropower LDO Regulator, MSOP-8; ki_keywords: LDO ADJ; ki_fp_filters: MSOP*3x3mm*P0.65mm*; Footprint: Package_SO:MSOP-8_3x3mm_P0.65mm; Datasheet: https://www.analog.com/media/en/technical-documentation/data-sheets/LT1762.pdf; Description_: 150mA, Adjustable, Low Noise, Micropower LDO Regulator, MSOP-8
pins: 1 OUT, 2 ADJ, 3 BYP, 4 GND, 5 ~{{SHDN}}, 6 NC, 7 NC, 8 IN

## LT1762-2.5
designator *  value LT1762-2.5  Reference: U
2.5V, 150mA, Low Noise, Micropower LDO Regulator, MSOP-8; ki_keywords: LDO ADJ; ki_fp_filters: MSOP*3x3mm*P0.65mm*; Footprint: Package_SO:MSOP-8_3x3mm_P0.65mm; Datasheet: https://www.analog.com/media/en/technical-documentation/data-sheets/LT1762.pdf; Description_: 2.5V, 150mA, Low Noise, Micropower LDO Regulator, MSOP-8
pins: 1 OUT, 2 SENSE, 3 BYP, 4 GND, 5 ~{{SHDN}}, 6 NC, 7 NC, 8 IN

## LT1762-3
designator *  value LT1762-3  Reference: U
3V, 150mA, Low Noise, Micropower LDO Regulator, MSOP-8; ki_keywords: LDO ADJ; ki_fp_filters: MSOP*3x3mm*P0.65mm*; Footprint: Package_SO:MSOP-8_3x3mm_P0.65mm; Datasheet: https://www.analog.com/media/en/technical-documentation/data-sheets/LT1762.pdf; Description_: 3V, 150mA, Low Noise, Micropower LDO Regulator, MSOP-8
pins: 1 OUT, 2 SENSE, 3 BYP, 4 GND, 5 ~{{SHDN}}, 6 NC, 7 NC, 8 IN

## LT1762-3.3
designator *  value LT1762-3.3  Reference: U
3.3V, 150mA, Low Noise, Micropower LDO Regulator, MSOP-8; ki_keywords: LDO ADJ; ki_fp_filters: MSOP*3x3mm*P0.65mm*; Footprint: Package_SO:MSOP-8_3x3mm_P0.65mm; Datasheet: https://www.analog.com/media/en/technical-documentation/data-sheets/LT1762.pdf; Description_: 3.3V, 150mA, Low Noise, Micropower LDO Regulator, MSOP-8
pins: 1 OUT, 2 SENSE, 3 BYP, 4 GND, 5 ~{{SHDN}}, 6 NC, 7 NC, 8 IN

## LT1762-5
designator *  value LT1762-5  Reference: U
5V, 150mA, Low Noise, Micropower LDO Regulator, MSOP-8; ki_keywords: LDO ADJ; ki_fp_filters: MSOP*3x3mm*P0.65mm*; Footprint: Package_SO:MSOP-8_3x3mm_P0.65mm; Datasheet: https://www.analog.com/media/en/technical-documentation/data-sheets/LT1762.pdf; Description_: 5V, 150mA, Low Noise, Micropower LDO Regulator, MSOP-8
pins: 1 OUT, 2 SENSE, 3 BYP, 4 GND, 5 ~{{SHDN}}, 6 NC, 7 NC, 8 IN

## LT1962
designator *  value LT1962  Reference: U
300mA, Adjustable, Low Noise, Micropower LDO Regulator, MSOP-8; ki_keywords: LDO ADJ; ki_fp_filters: MSOP*3x3mm*P0.65mm*; Footprint: Package_SO:MSOP-8_3x3mm_P0.65mm; Datasheet: https://www.analog.com/media/en/technical-documentation/data-sheets/1962fb.pdf; Description_: 300mA, Adjustable, Low Noise, Micropower LDO Regulator, MSOP-8
pins: 1 OUT, 2 ADJ, 3 BYP, 4 GND, 5 ~{{SHDN}}, 6 NC, 7 NC, 8 IN

## LT1962-1.5
designator *  value LT1962-1.5  Reference: U
1.5V, 300mA, Low Noise, Micropower LDO Regulator, MSOP-8; ki_keywords: LDO 1.5V; ki_fp_filters: MSOP*3x3mm*P0.65mm*; Footprint: Package_SO:MSOP-8_3x3mm_P0.65mm; Datasheet: https://www.analog.com/media/en/technical-documentation/data-sheets/1962fb.pdf; Description_: 1.5V, 300mA, Low Noise, Micropower LDO Regulator, MSOP-8
pins: 1 OUT, 2 SENSE, 3 BYP, 4 GND, 5 ~{{SHDN}}, 6 NC, 7 NC, 8 IN

## LT1962-1.8
designator *  value LT1962-1.8  Reference: U
1.8V, 300mA, Low Noise, Micropower LDO Regulator, MSOP-8; ki_keywords: LDO 1.8V; ki_fp_filters: MSOP*3x3mm*P0.65mm*; Footprint: Package_SO:MSOP-8_3x3mm_P0.65mm; Datasheet: https://www.analog.com/media/en/technical-documentation/data-sheets/1962fb.pdf; Description_: 1.8V, 300mA, Low Noise, Micropower LDO Regulator, MSOP-8
pins: 1 OUT, 2 SENSE, 3 BYP, 4 GND, 5 ~{{SHDN}}, 6 NC, 7 NC, 8 IN

## LT1962-2.5
designator *  value LT1962-2.5  Reference: U
2.5V, 300mA, Low Noise, Micropower LDO Regulator, MSOP-8; ki_keywords: LDO 2.5V; ki_fp_filters: MSOP*3x3mm*P0.65mm*; Footprint: Package_SO:MSOP-8_3x3mm_P0.65mm; Datasheet: https://www.analog.com/media/en/technical-documentation/data-sheets/1962fb.pdf; Description_: 2.5V, 300mA, Low Noise, Micropower LDO Regulator, MSOP-8
pins: 1 OUT, 2 SENSE, 3 BYP, 4 GND, 5 ~{{SHDN}}, 6 NC, 7 NC, 8 IN

## LT1962-3
designator *  value LT1962-3  Reference: U
3.0V, 300mA, Low Noise, Micropower LDO Regulator, MSOP-8; ki_keywords: LDO 3V; ki_fp_filters: MSOP*3x3mm*P0.65mm*; Footprint: Package_SO:MSOP-8_3x3mm_P0.65mm; Datasheet: https://www.analog.com/media/en/technical-documentation/data-sheets/1962fb.pdf; Description_: 3.0V, 300mA, Low Noise, Micropower LDO Regulator, MSOP-8
pins: 1 OUT, 2 SENSE, 3 BYP, 4 GND, 5 ~{{SHDN}}, 6 NC, 7 NC, 8 IN

## LT1962-3.3
designator *  value LT1962-3.3  Reference: U
3.3V, 300mA, Low Noise, Micropower LDO Regulator, MSOP-8; ki_keywords: LDO 3.3V; ki_fp_filters: MSOP*3x3mm*P0.65mm*; Footprint: Package_SO:MSOP-8_3x3mm_P0.65mm; Datasheet: https://www.analog.com/media/en/technical-documentation/data-sheets/1962fb.pdf; Description_: 3.3V, 300mA, Low Noise, Micropower LDO Regulator, MSOP-8
pins: 1 OUT, 2 SENSE, 3 BYP, 4 GND, 5 ~{{SHDN}}, 6 NC, 7 NC, 8 IN

## LT1962-5
designator *  value LT1962-5  Reference: U
5.0V, 300mA, Low Noise, Micropower LDO Regulator, MSOP-8; ki_keywords: LDO 5V; ki_fp_filters: MSOP*3x3mm*P0.65mm*; Footprint: Package_SO:MSOP-8_3x3mm_P0.65mm; Datasheet: https://www.analog.com/media/en/technical-documentation/data-sheets/1962fb.pdf; Description_: 5.0V, 300mA, Low Noise, Micropower LDO Regulator, MSOP-8
pins: 1 OUT, 2 SENSE, 3 BYP, 4 GND, 5 ~{{SHDN}}, 6 NC, 7 NC, 8 IN

## LT1963AEQ
designator *  value LT1963AEQ  Reference: U
1.5A, Adjustable, Low Noise, Linear Voltage Regulator, TO-263-5; ki_keywords: low noise voltage regulator; ki_fp_filters: TO*263*; Footprint: Package_TO_SOT_SMD:TO-263-5_TabPin3; Datasheet: https://www.analog.com/media/en/technical-documentation/data-sheets/1963aff.pdf; Description_: 1.5A, Adjustable, Low Noise, Linear Voltage Regulator, TO-263-5
pins: 1 ~{{SHDN}}, 2 IN, 3 GND, 4 OUT, 5 ADJ

## LT1963AxQ-1.5
designator *  value LT1963AxQ-1.5  Reference: U
1.5V, 1.5A, Low Noise, Fast Transient Response LDO Regulator, TO-263-5; ki_keywords: voltage regulator linear ldo; ki_fp_filters: TO*263*; Footprint: Package_TO_SOT_SMD:TO-263-5_TabPin3; Datasheet: https://www.analog.com/media/en/technical-documentation/data-sheets/1963aff.pdf; Description_: 1.5V, 1.5A, Low Noise, Fast Transient Response LDO Regulator, TO-263-5
pins: 1 ~{{SHDN}}, 2 IN, 3 GND, 4 OUT, 5 SENSE

## LT1963AxQ-1.8
designator *  value LT1963AxQ-1.8  Reference: U
1.8V, 1.5A, Low Noise, Fast Transient Response LDO Regulator, TO-263-5; ki_keywords: voltage regulator linear ldo; ki_fp_filters: TO*263*; Footprint: Package_TO_SOT_SMD:TO-263-5_TabPin3; Datasheet: https://www.analog.com/media/en/technical-documentation/data-sheets/1963aff.pdf; Description_: 1.8V, 1.5A, Low Noise, Fast Transient Response LDO Regulator, TO-263-5
pins: 1 ~{{SHDN}}, 2 IN, 3 GND, 4 OUT, 5 SENSE

## LT1963AxQ-2.5
designator *  value LT1963AxQ-2.5  Reference: U
2.5V, 1.5A, Low Noise, Fast Transient Response LDO Regulator, TO-263-5; ki_keywords: voltage regulator linear ldo; ki_fp_filters: TO*263*; Footprint: Package_TO_SOT_SMD:TO-263-5_TabPin3; Datasheet: https://www.analog.com/media/en/technical-documentation/data-sheets/1963aff.pdf; Description_: 2.5V, 1.5A, Low Noise, Fast Transient Response LDO Regulator, TO-263-5
pins: 1 ~{{SHDN}}, 2 IN, 3 GND, 4 OUT, 5 SENSE

## LT1963AxQ-3.3
designator *  value LT1963AxQ-3.3  Reference: U
3.3V, 1.5A, Low Noise, Fast Transient Response LDO Regulator, TO-263-5; ki_keywords: voltage regulator linear ldo; ki_fp_filters: TO*263*; Footprint: Package_TO_SOT_SMD:TO-263-5_TabPin3; Datasheet: https://www.analog.com/media/en/technical-documentation/data-sheets/1963aff.pdf; Description_: 3.3V, 1.5A, Low Noise, Fast Transient Response LDO Regulator, TO-263-5
pins: 1 ~{{SHDN}}, 2 IN, 3 GND, 4 OUT, 5 SENSE

## LT1963AxST-1.5
designator *  value LT1963AxST-1.5  Reference: U
1.5V, 1.5A, Low Noise, Fast Transient Response LDO Regulator, SOT-223; ki_keywords: LDO voltage regulator fixed; ki_fp_filters: SOT*223*; Footprint: Package_TO_SOT_SMD:SOT-223-3_TabPin2; Datasheet: https://www.analog.com/media/en/technical-documentation/data-sheets/1963aff.pdf; Description_: 1.5V, 1.5A, Low Noise, Fast Transient Response LDO Regulator, SOT-223
pins: 1 IN, 2 GND, 3 OUT

## LT1963AxST-1.8
designator *  value LT1963AxST-1.8  Reference: U
1.8V, 1.5A, Low Noise, Fast Transient Response LDO Regulator, SOT-223; ki_keywords: LDO voltage regulator fixed; ki_fp_filters: SOT*223*; Footprint: Package_TO_SOT_SMD:SOT-223-3_TabPin2; Datasheet: https://www.analog.com/media/en/technical-documentation/data-sheets/1963aff.pdf; Description_: 1.8V, 1.5A, Low Noise, Fast Transient Response LDO Regulator, SOT-223
pins: 1 IN, 2 GND, 3 OUT

## LT1963AxST-2.5
designator *  value LT1963AxST-2.5  Reference: U
2.5V, 1.5A, Low Noise, Fast Transient Response LDO Regulator, SOT-223; ki_keywords: LDO voltage regulator fixed; ki_fp_filters: SOT*223*; Footprint: Package_TO_SOT_SMD:SOT-223-3_TabPin2; Datasheet: https://www.analog.com/media/en/technical-documentation/data-sheets/1963aff.pdf; Description_: 2.5V, 1.5A, Low Noise, Fast Transient Response LDO Regulator, SOT-223
pins: 1 IN, 2 GND, 3 OUT

## LT1963AxST-3.3
designator *  value LT1963AxST-3.3  Reference: U
3.3V, 1.5A, Low Noise, Fast Transient Response LDO Regulator, SOT-223; ki_keywords: LDO voltage regulator fixed; ki_fp_filters: SOT*223*; Footprint: Package_TO_SOT_SMD:SOT-223-3_TabPin2; Datasheet: https://www.analog.com/media/en/technical-documentation/data-sheets/1963aff.pdf; Description_: 3.3V, 1.5A, Low Noise, Fast Transient Response LDO Regulator, SOT-223
pins: 1 IN, 2 GND, 3 OUT

## LT1963EQ
designator *  value LT1963EQ  Reference: U
1.5A, Adjustable, Low Noise, Linear Voltage Regulator, TO-263-5; ki_keywords: low noise voltage regulator; ki_fp_filters: TO*263*; Footprint: Package_TO_SOT_SMD:TO-263-5_TabPin3; Datasheet: https://www.analog.com/media/en/technical-documentation/data-sheets/1963fc.pdf; Description_: 1.5A, Adjustable, Low Noise, Linear Voltage Regulator, TO-263-5
pins: 1 ~{{SHDN}}, 2 IN, 3 GND, 4 OUT, 5 ADJ

## LT1964-5
designator *  value LT1964-5  Reference: U
MICROPOWER 200mA Low Noise LDO negative regulator, fixed output -5V, TSOT-23-5; ki_keywords: REGULATOR POSITIVE POWER LDO fixed; ki_fp_filters: TSOT?23*; Footprint: Package_TO_SOT_SMD:TSOT-23-5; Datasheet: https://www.analog.com/media/en/technical-documentation/data-sheets/1964fb.pdf; Description_: MICROPOWER 200mA Low Noise LDO negative regulator, fixed output -5V, TSOT-23-5
pins: 1 GND, 2 VIN, 3 BYP, 4 ~{{SHDN}}, 5 VOUT

## LT1964-BYP
designator *  value LT1964-BYP  Reference: U
MICROPOWER 200mA Low Noise LDO negative regulator, adjustable output, TSOT-23-5; ki_keywords: REGULATOR POSITIVE POWER LDO adjustable; ki_fp_filters: TSOT?23*; Footprint: Package_TO_SOT_SMD:TSOT-23-5; Datasheet: https://www.analog.com/media/en/technical-documentation/data-sheets/1964fb.pdf; Description_: MICROPOWER 200mA Low Noise LDO negative regulator, adjustable output, TSOT-23-5
pins: 1 GND, 2 VIN, 3 BYP, 4 ADJ, 5 VOUT

## LT1964-SD
designator *  value LT1964-SD  Reference: U
MICROPOWER 200mA Low Noise LDO negative regulator, adjustable output, TSOT-23-5; ki_keywords: REGULATOR POSITIVE POWER LDO adjustable; ki_fp_filters: TSOT?23*; Footprint: Package_TO_SOT_SMD:TSOT-23-5; Datasheet: https://www.analog.com/media/en/technical-documentation/data-sheets/1964fb.pdf; Description_: MICROPOWER 200mA Low Noise LDO negative regulator, adjustable output, TSOT-23-5
pins: 1 GND, 2 VIN, 3 ~{{SHDN}}, 4 ADJ, 5 VOUT

## LT3010
designator *  value LT3010  Reference: U
50mA 3-80V Micropower Low Dropout Regulator, adjustable output, MSOP-8; ki_keywords: REGULATOR POSITIVE POWER LDO adjustable; ki_fp_filters: MSOP*3x3mm*P0.65mm*; Footprint: Package_SO:MSOP-8-1EP_3x3mm_P0.65mm_EP1.68x1.88mm; Datasheet: https://www.analog.com/media/en/technical-documentation/data-sheets/30105fe.pdf; Description_: 50mA 3-80V Micropower Low Dropout Regulator, adjustable output, MSOP-8
pins: 1 OUT, 2 ADJ, 3 NC, 4 GND, 5 ~{{SHDN}}, 6 NC, 7 NC, 8 IN, 9 GND

## LT3010-5
designator *  value LT3010-5  Reference: U
50mA 3-80V Micropower Low Dropout Regulator, fixed output 5V, MSOP-8; ki_keywords: REGULATOR POSITIVE POWER LDO fixed; ki_fp_filters: MSOP*3x3mm*P0.65mm*; Footprint: Package_SO:MSOP-8-1EP_3x3mm_P0.65mm_EP1.68x1.88mm; Datasheet: https://www.analog.com/media/en/technical-documentation/data-sheets/30105fe.pdf; Description_: 50mA 3-80V Micropower Low Dropout Regulator, fixed output 5V, MSOP-8
pins: 1 OUT, 2 SENSE, 3 NC, 4 GND, 5 ~{{SHDN}}, 6 NC, 7 NC, 8 IN, 9 GND

## LT3011xDD
designator *  value LT3011xDD  Reference: U
50mA, 3V to 80V Low Dropout Micropower Linear Regulator with PWRGD, DFN-10; ki_keywords: variable regulator; ki_fp_filters: DFN*1EP*3x3mm*P0.5mm*; Footprint: Package_DFN_QFN:DFN-10-1EP_3x3mm_P0.5mm_EP1.65x2.38mm; Datasheet: https://www.analog.com/media/en/technical-documentation/data-sheets/3011f.pdf; Description_: 50mA, 3V to 80V Low Dropout Micropower Linear Regulator with PWRGD, DFN-10
pins: 1 OUT, 2 ADJ, 3 GND, 4 NC, 5 PWRGD, 6 CT, 7 NC, 8 ~{{SHDN}}, 9 NC, 10 IN, 11 GND

## LT3011xMSE
designator *  value LT3011xMSE  Reference: U
50mA, 3V to 80V Low Dropout Micropower Linear Regulator with PWRGD, MSOP-12; ki_keywords: variable regulator; ki_fp_filters: MSOP*1EP*3x4.039mm*P0.65mm*; Footprint: Package_SO:MSOP-12-1EP_3x4.039mm_P0.65mm_EP1.651x2.845mm; Datasheet: https://www.analog.com/media/en/technical-documentation/data-sheets/3011f.pdf; Description_: 50mA, 3V to 80V Low Dropout Micropower Linear Regulator with PWRGD, MSOP-12
pins: 1 NC, 2 OUT, 3 ADJ, 4 GND, 5 NC, 6 PWRGD, 7 CT, 8 NC, 9 ~{{SHDN}}, 10 NC, 11 IN, 12 NC, 13 GND

## LT3014xDD
designator *  value LT3014xDD  Reference: U
20mA output, 3V..80Vin, High voltage low-dropout regulator, DFN-8; ki_keywords: analog analog-devices linear linear-technology linear LDO; ki_fp_filters: DFN*1EP*3x3mm*P0.5mm*; Footprint: Package_DFN_QFN:DFN-8-1EP_3x3mm_P0.5mm_EP1.66x2.38mm; Datasheet: https://www.analog.com/media/en/technical-documentation/data-sheets/3014fd.pdf; Description_: 20mA output, 3V..80Vin, High voltage low-dropout regulator, DFN-8
pins: 1 OUT, 2 ADJ, 3 NC, 4 GND, 5 ~{{SHDN}}, 6 NC, 7 NC, 8 IN, 9 GND

## LT3014xS5
designator *  value LT3014xS5  Reference: U
20mA output, 3V..80Vin, High voltage low-dropout regulator, SOT-23-5; ki_keywords: analog analog-devices linear linear-technology linear LDO; ki_fp_filters: SOT?23*; Footprint: Package_TO_SOT_SMD:SOT-23-5; Datasheet: https://www.analog.com/media/en/technical-documentation/data-sheets/3014fd.pdf; Description_: 20mA output, 3V..80Vin, High voltage low-dropout regulator, SOT-23-5
pins: 1 VIN, 2 GND, 3 ~{{SHDN}}, 4 ADJ, 5 VOUT

## LT3015Q
designator *  value LT3015Q  Reference: U
1.5A, Adjustable, Low Noise, Negative Voltage Regulator, TO-263-5; ki_keywords: low noise voltage regulator; ki_fp_filters: TO*263*; Footprint: Package_TO_SOT_SMD:TO-263-5_TabPin3; Datasheet: https://www.analog.com/media/en/technical-documentation/data-sheets/3015fb.pdf; Description_: 1.5A, Adjustable, Low Noise, Negative Voltage Regulator, TO-263-5
pins: 1 ~{{SHDN}}, 2 GND, 3 IN, 4 ADJ, 5 OUT

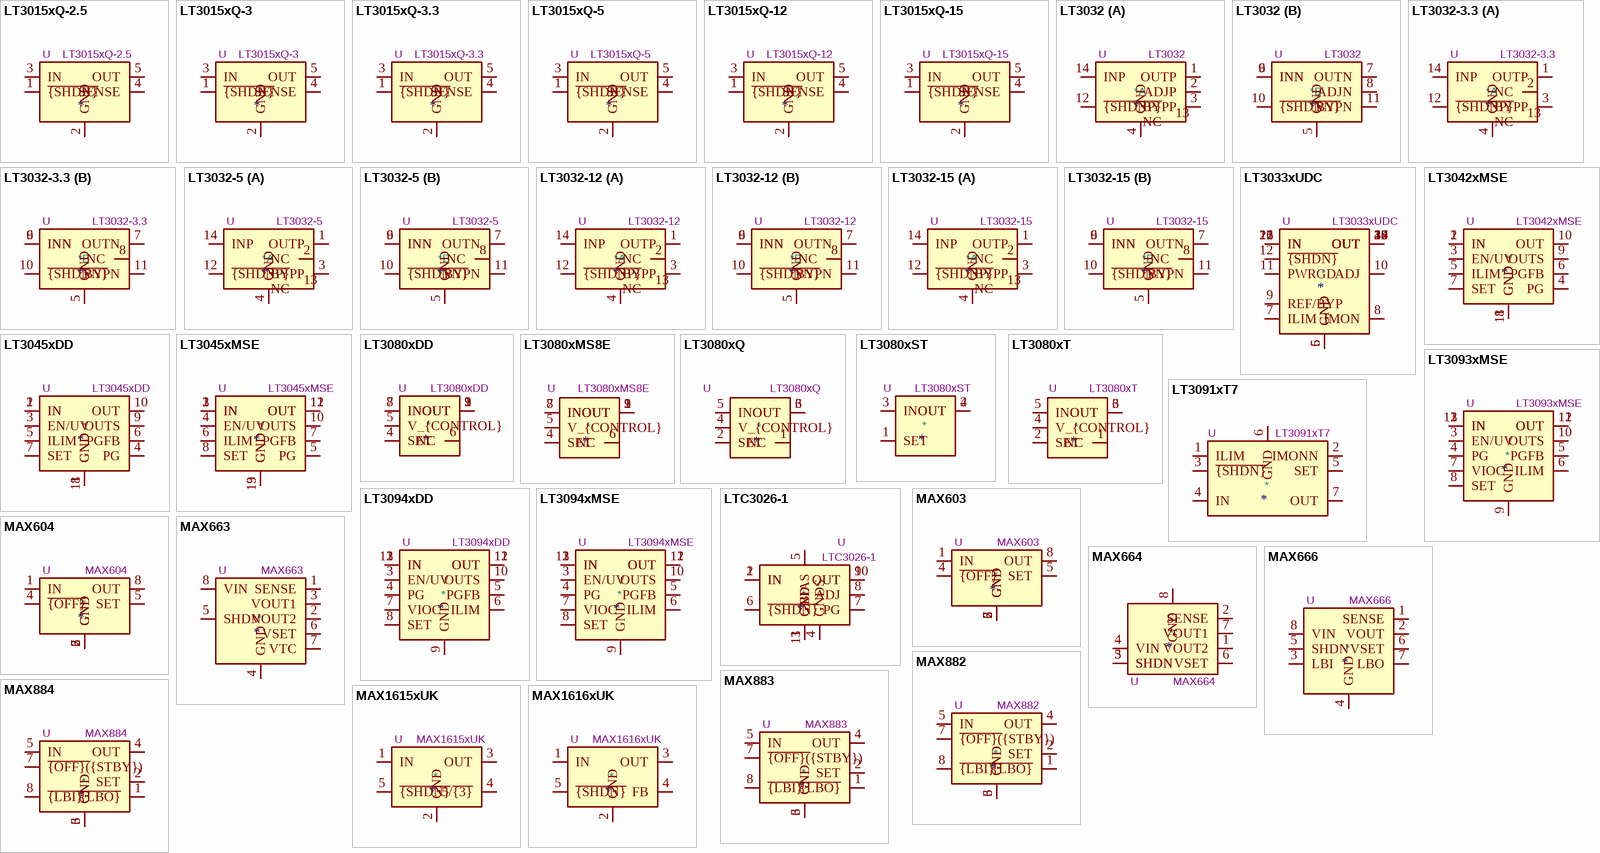
[diagram p21: symbols LT3015xQ-2.5 to MAX1616xUK]

## LT3015xQ-2.5
designator *  value LT3015xQ-2.5  Reference: U
-2.5V, 1.5A, Low Noise, Negative Linear Regulator with Precision Current Limit, TO-263-5; ki_keywords: negative voltage regulator; ki_fp_filters: TO*263*; Footprint: Package_TO_SOT_SMD:TO-263-5_TabPin3; Datasheet: https://www.analog.com/media/en/technical-documentation/data-sheets/3015fb.pdf; Description_: -2.5V, 1.5A, Low Noise, Negative Linear Regulator with Precision Current Limit, TO-263-5
pins: 1 ~{{SHDN}}, 2 GND, 3 IN, 4 SENSE, 5 OUT

## LT3015xQ-3
designator *  value LT3015xQ-3  Reference: U
-3V, 1.5A, Low Noise, Negative Linear Regulator with Precision Current Limit, TO-263-5; ki_keywords: negative voltage regulator; ki_fp_filters: TO*263*; Footprint: Package_TO_SOT_SMD:TO-263-5_TabPin3; Datasheet: https://www.analog.com/media/en/technical-documentation/data-sheets/3015fb.pdf; Description_: -3V, 1.5A, Low Noise, Negative Linear Regulator with Precision Current Limit, TO-263-5
pins: 1 ~{{SHDN}}, 2 GND, 3 IN, 4 SENSE, 5 OUT

## LT3015xQ-3.3
designator *  value LT3015xQ-3.3  Reference: U
-3.3V, 1.5A, Low Noise, Negative Linear Regulator with Precision Current Limit, TO-263-5; ki_keywords: negative voltage regulator; ki_fp_filters: TO*263*; Footprint: Package_TO_SOT_SMD:TO-263-5_TabPin3; Datasheet: https://www.analog.com/media/en/technical-documentation/data-sheets/3015fb.pdf; Description_: -3.3V, 1.5A, Low Noise, Negative Linear Regulator with Precision Current Limit, TO-263-5
pins: 1 ~{{SHDN}}, 2 GND, 3 IN, 4 SENSE, 5 OUT